# EAGLE library part C8051F394 (library tmxk)
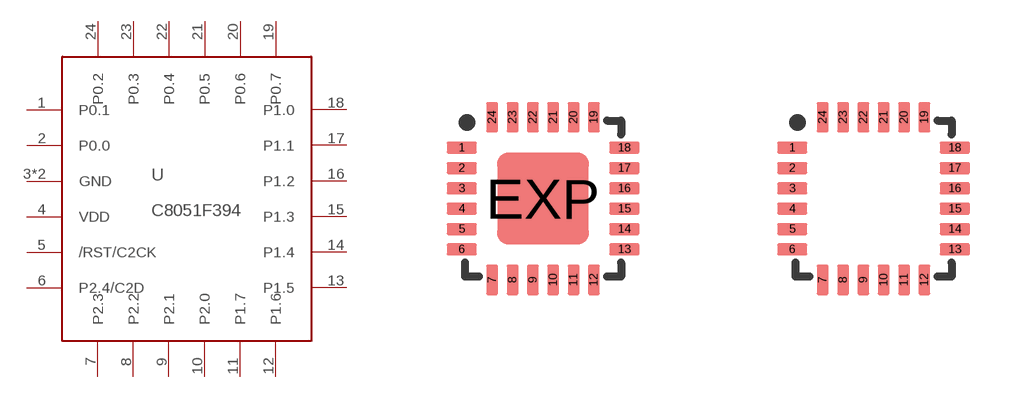
[diagram p16: symbol with the pads of QFN24; footprints QFN24, QFN24-NOPAD]

Designator prefix U

## C8051F394PAD  [QFN24]
1  P0.1
2  P0.0
3  GND
4  VDD
5  /RST/C2CK
6  P2.4/C2D
7  P2.3
8  P2.2
9  P2.1
10  P2.0
11  P1.7
12  P1.6
13  P1.5
14  P1.4
15  P1.3
16  P1.2
17  P1.1
18  P1.0
19  P0.7
20  P0.6
21  P0.5
22  P0.4
23  P0.3
24  P0.2
EXP  GND

## C8051F394NOPAD  [QFN24-NOPAD]
1  P0.1
2  P0.0
3  GND
4  VDD
5  /RST/C2CK
6  P2.4/C2D
7  P2.3
8  P2.2
9  P2.1
10  P2.0
11  P1.7
12  P1.6
13  P1.5
14  P1.4
15  P1.3
16  P1.2
17  P1.1
18  P1.0
19  P0.7
20  P0.6
21  P0.5
22  P0.4
23  P0.3
24  P0.2

## Footprint QFN24 (pad centres in mm)
QFN 4x4 mm Source: http://www.hittite.com/product_info/product_specs/dividersdetectors/hmc394lp4.pdf
smd 0.762 x 0.3: 1 -2.032,1.27; 2 -2.032,0.762; 3 -2.032,0.254; 4 -2.032,-0.254; 5 -2.032,-0.762; 6 -2.032,-1.27; 13 2.032,-1.27; 14 2.032,-0.762; 15 2.032,-0.254; 16 2.032,0.254; 17 2.032,0.762; 18 2.032,1.27
smd 0.3 x 0.762: 7 -1.27,-2.032; 8 -0.762,-2.032; 9 -0.254,-2.032; 10 0.254,-2.032; 11 0.762,-2.032; 12 1.27,-2.032; 19 1.27,2.032; 20 0.762,2.032; 21 0.254,2.032; 22 -0.254,2.032; 23 -0.762,2.032; 24 -1.27,2.032
smd 2.286 x 2.286: EXP 0,0

## Footprint QFN24-NOPAD (pad centres in mm)
QFN 4x4 mm Source: http://www.hittite.com/product_info/product_specs/dividersdetectors/hmc394lp4.pdf
smd 0.762 x 0.3: 1 -2.032,1.27; 2 -2.032,0.762; 3 -2.032,0.254; 4 -2.032,-0.254; 5 -2.032,-0.762; 6 -2.032,-1.27; 13 2.032,-1.27; 14 2.032,-0.762; 15 2.032,-0.254; 16 2.032,0.254; 17 2.032,0.762; 18 2.032,1.27
smd 0.3 x 0.762: 7 -1.27,-2.032; 8 -0.762,-2.032; 9 -0.254,-2.032; 10 0.254,-2.032; 11 0.762,-2.032; 12 1.27,-2.032; 19 1.27,2.032; 20 0.762,2.032; 21 0.254,2.032; 22 -0.254,2.032; 23 -0.762,2.032; 24 -1.27,2.032